# Altium footprint library MMA8452Q.PcbLib: 2 footprints
Each footprint in its own frame and in the unit in brackets; x right, y up, seen from the top. Pads: shape width x height; smd on the part's side, far side on the other; paste and mask are expansions set on the pad; w line width, h text height; cw(c..) or ccw(c..) is an arc to the next point about the centre after c.
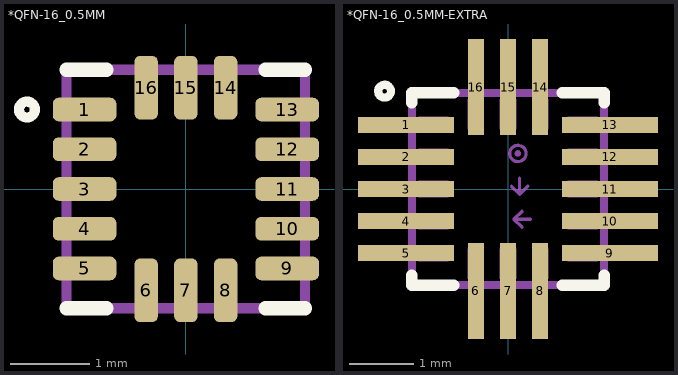
[diagram p0: the footprints below, top view; thin cyan lines are the x and y axes]

## *QFN-16_0.5MM [mm]
pads (16):
  rrect50% 0.8x0.297 smd mask+0.051: 1(-1.275,1) 2(-1.275,0.5) 3(-1.275,0) 4(-1.275,-0.5) 5(-1.275,-1) 9(1.275,-1) 10(1.275,-0.5) 11(1.275,0) 12(1.275,0.5) 13(1.275,1)
  rrect50% 0.297x0.8 smd mask+0.051: 6(-0.5,-1.275) 7(0,-1.275) 8(0.5,-1.275) 14(0.5,1.275) 15(0,1.275) 16(-0.5,1.275)
Top Overlay:
  circle w0.127: c-2,1 r0.1
  lines w0.178: -1.5,-1.5 -1,-1.5 ; -1.5,1.5 -1,1.5 ; 1,-1.5 1.5,-1.5 ; 1,1.5 1.5,1.5
Mechanical 13:
  region: -0.125,-0.933 0.125,-0.933 0.125,-1.403 -0.125,-1.403
  region: 0.376,-0.933 0.625,-0.933 0.625,-1.402 0.376,-1.402
  region: -0.625,-0.933 -0.375,-0.933 -0.375,-1.401 -0.625,-1.401
  region: -0.125,1.4 0.125,1.4 0.125,0.934 -0.125,0.934
  region: 0.375,1.4 0.625,1.4 0.625,0.933 0.375,0.933
  region: -0.626,1.4 -0.375,1.4 -0.375,0.934 -0.626,0.934
  region: -1.401,0.125 -0.933,0.125 -0.933,-0.125 -1.401,-0.125
  region: -1.402,0.625 -0.933,0.625 -0.933,0.376 -1.402,0.376
  region: -1.4,1.125 -0.933,1.125 -0.933,0.875 -1.4,0.875
  region: -1.4,-0.375 -0.933,-0.375 -0.933,-0.625 -1.4,-0.625
  region: -1.401,-0.875 -0.933,-0.875 -0.933,-1.126 -1.401,-1.126
  region: 0.933,0.125 1.4,0.125 1.4,-0.125 0.933,-0.125
  region: 0.934,0.625 1.4,0.625 1.4,0.375 0.934,0.375
  region: 0.934,1.125 1.4,1.125 1.4,0.875 0.934,0.875
  region: 0.934,-0.375 1.4,-0.375 1.4,-0.626 0.934,-0.626
  region: 0.934,-0.875 1.4,-0.875 1.4,-1.126 0.934,-1.126
  region: -0.125,-0.933 0.125,-0.933 0.125,-1.403 -0.125,-1.403
  region: 0.376,-0.933 0.625,-0.933 0.625,-1.402 0.376,-1.402
  region: -0.625,-0.933 -0.375,-0.933 -0.375,-1.401 -0.625,-1.401
  region: -0.125,1.4 0.125,1.4 0.125,0.934 -0.125,0.934
  region: 0.375,1.4 0.625,1.4 0.625,0.933 0.375,0.933
  region: -0.626,1.4 -0.375,1.4 -0.375,0.934 -0.626,0.934
  region: -1.401,0.125 -0.933,0.125 -0.933,-0.125 -1.401,-0.125
  region: -1.402,0.625 -0.933,0.625 -0.933,0.376 -1.402,0.376
  region: -1.4,1.125 -0.933,1.125 -0.933,0.875 -1.4,0.875
  region: -1.4,-0.375 -0.933,-0.375 -0.933,-0.625 -1.4,-0.625
  region: -1.401,-0.875 -0.933,-0.875 -0.933,-1.126 -1.401,-1.126
  region: 0.933,0.125 1.4,0.125 1.4,-0.125 0.933,-0.125
  region: 0.934,0.625 1.4,0.625 1.4,0.375 0.934,0.375
  region: 0.934,1.125 1.4,1.125 1.4,0.875 0.934,0.875
  region: 0.934,-0.375 1.4,-0.375 1.4,-0.626 0.934,-0.626
  region: 0.934,-0.875 1.4,-0.875 1.4,-1.126 0.934,-1.126
  lines w0.127: -1.5,-1.5 -1.5,1.5 ; -1.5,-1.5 1.5,-1.5 ; -1.5,-1.5 -1.5,1.5 ; -1.5,-1.5 1.5,-1.5 ; -1.5,1.5 1.5,1.5 ; -1.5,1.5 1.5,1.5 ; 1.5,-1.5 1.5,1.5 ; 1.5,-1.5 1.5,1.5
3D body: height 1, standoff 0, extent -1.373,-1.5 1.373,1.5

## *QFN-16_0.5MM-EXTRA [mm]
pads (16):
  rect 1.5x0.25 smd: 1(-1.59,1) 2(-1.59,0.5) 3(-1.59,0) 4(-1.59,-0.5) 5(-1.59,-1) 9(1.59,-1) 10(1.59,-0.5) 11(1.59,0) 12(1.59,0.5) 13(1.59,1)
  rect 0.25x1.5 smd: 6(-0.5,-1.59) 7(0,-1.59) 8(0.5,-1.59) 14(0.5,1.59) 15(0,1.59) 16(-0.5,1.59)
Top Overlay:
  circle w0.127: c-1.925,1.525 r0.1
  lines w0.178: -1.5,-1.343 -1.5,-1.5 -0.843,-1.5 ; -1.5,1.343 -1.5,1.5 -0.843,1.5 ; 0.843,-1.5 1.5,-1.5 1.5,-1.343 ; 0.843,1.5 1.5,1.5 1.5,1.343
Mechanical 13:
  drawing of 56 lines, arcs and shapes, not listed
  text "Z" at -0.3,0.15 h1.88
  text "Y" at -0.3,-0.35 h1.88
  text "X" at -0.3,-0.85 h1.88
  text "Z" at -0.3,0.15 h1.88
  text "Y" at -0.3,-0.35 h1.88
  text "X" at -0.3,-0.85 h1.88